# Altium footprint library Seeed-OPL-Display.PCBLIB: 11 footprints
Each footprint in its own frame and in the unit in brackets; x right, y up, seen from the top. Pads: shape width x height; smd on the part's side, far side on the other; paste and mask are expansions set on the pad; w line width, h text height; cw(c..) or ccw(c..) is an arc to the next point about the centre after c.
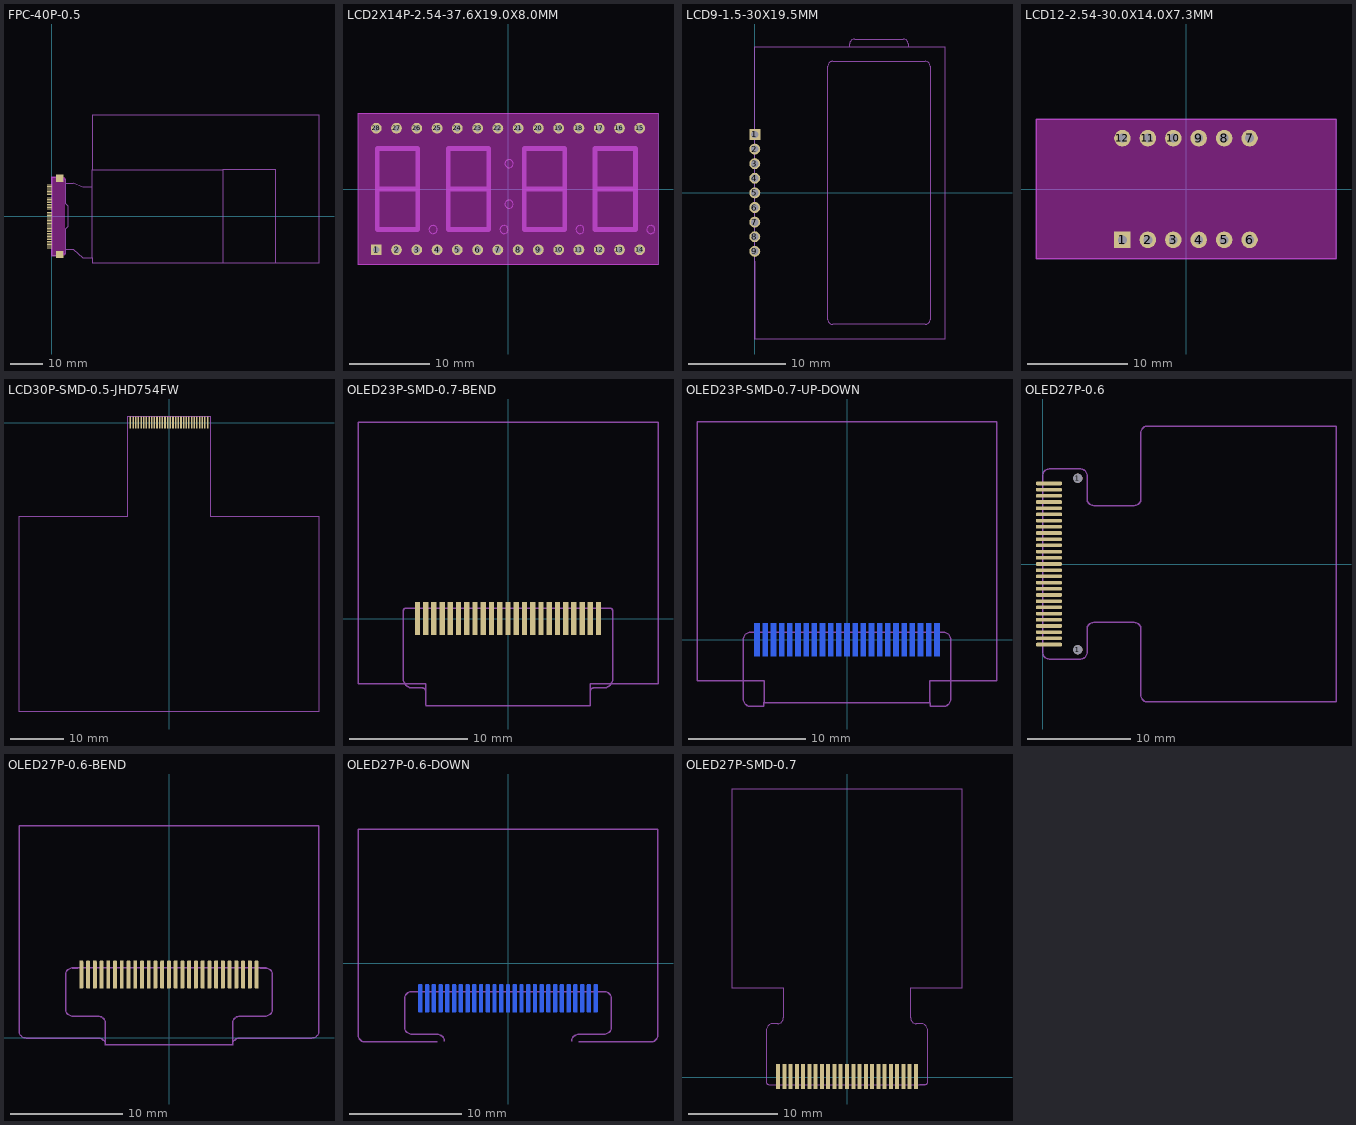
[diagram p0: the footprints below, top view; thin cyan lines are the x and y axes]

## FPC-40P-0.5 [mil]
pads (42):
  rect 60x12 smd: 1(-30,383.86) 2(-30,364.17) 3(-30,344.49) 4(-30,324.8) 5(-30,305.12) 6(-30,285.43) 7(-30,265.75) 8(-30,246.06) 9(-30,226.38) 10(-30,206.69) 11(-30,187.01) 12(-30,167.32) 13(-30,147.64) 14(-30,127.95) 15(-30,108.27) 16(-30,88.58) 17(-30,68.9) 18(-30,49.21) 19(-30,29.53) 20(-30,9.84) 21(-30,-9.84) 22(-30,-29.53) 23(-30,-49.21) 24(-30,-68.9) 25(-30,-88.58) 26(-30,-108.27) 27(-30,-127.95) 28(-30,-147.64) 29(-30,-167.32) 30(-30,-187.01) 31(-30,-206.69) 32(-30,-226.38) 33(-30,-246.06) 34(-30,-265.75) 35(-30,-285.43) 36(-30,-305.12) 37(-30,-324.8) 38(-30,-344.49) 39(-30,-364.17) 40(-30,-383.86)
  rect 90x90 smd: P1(95,465) P2(95,-465)
Keep-Out Layer:
  region: -4.41,480.32 -4.42,-480.32 160.94,-480.32 160.95,480.32
Mechanical 2:
  lines w5: -3.94,-393.7 -3.94,-480.32 47.24,-480.32 ; -3.94,393.7 -3.94,480.32 43.31,480.32 ; 145.67,-462.6 161.42,-462.6 ; 145.67,462.6 161.42,462.6 ; 160.94,-462.6 160.94,-403.54 ; 160.94,462.6 160.94,403.54 ; 495.59,360 495.59,566.93 ; 160.94,-403.54 160.94,-157.48 196.38,-127.95 196.38,127.95 160.94,157.48 160.94,403.54 ; 160.94,-403.54 259.37,-403.54 377.48,-507.87 495.59,-507.87 ; 160.94,403.54 259.37,403.54 377.48,358.27 495.59,358.27 495.59,-507.87 ; 495.59,-507.87 495.59,-566.93 2086.54,-566.93 ; 495.59,566.93 2086.54,566.93 ; 495.59,566.93 495.59,1236.22 3264.09,1236.22 3264.09,-566.93 2735.75,-566.93 ; 2086.54,-566.93 2086.54,566.93 ; 2086.54,-566.93 2735.75,-566.93 ; 2086.54,566.93 2735.75,566.93 2735.75,-566.93
Mechanical 18:
  lines w5: 160.94,-462.6 137.32,-462.6 137.32,-433.07 125.51,-433.07 125.51,-480.32 -4.41,-480.32 -4.41,480.32 125.51,480.32 125.51,433.07 137.32,433.07 137.32,462.6 160.94,462.6

## LCD2X14P-2.54-37.6X19.0X8.0MM [mm]
pads (28):
  rect 1.35x1.35 hole 0.8: 1(-16.51,-7.62)
  round 1.35 hole 0.8: 2(-13.97,-7.62) 3(-11.43,-7.62) 4(-8.89,-7.62) 5(-6.35,-7.62) 6(-3.81,-7.62) 7(-1.27,-7.62) 8(1.27,-7.62) 9(3.81,-7.62) 10(6.35,-7.62) 11(8.89,-7.62) 12(11.43,-7.62) 13(13.97,-7.62) 14(16.51,-7.62) 15(16.51,7.62) 16(13.97,7.62) 17(11.43,7.62) 18(8.89,7.62) 19(6.35,7.62) 20(3.81,7.62) 21(1.27,7.62) 22(-1.27,7.62) 23(-3.81,7.62) 24(-6.35,7.62) 25(-8.89,7.62) 26(-11.43,7.62) 27(-13.97,7.62) 28(-16.51,7.62)
Keep-Out Layer:
  rectangle: -18.8,-9.5 18.8,9.5
Mechanical 2:
  circle w0: c-9.398,-5.08 r0.508
  circle w0: c-0.508,-5.08 r0.508
  circle w0: c0.127,-1.905 r0.508
  circle w0: c0.127,3.175 r0.508
  circle w0: c9.017,-5.08 r0.508
  circle w0: c17.907,-5.08 r0.508
  lines w0.127: -18.8,-9.5 18.8,-9.5 18.8,9.5 -18.8,9.5 -18.8,-9.5
  lines w0.61: -16.383,0 -11.303,0 ; -16.383,0 -16.383,5.08 -11.303,5.08 -11.303,0 ; -16.383,0 -16.383,-5.08 -11.303,-5.08 -11.303,0 ; -7.493,0 -2.413,0 ; -7.493,0 -7.493,5.08 -2.413,5.08 -2.413,0 ; -7.493,0 -7.493,-5.08 -2.413,-5.08 -2.413,0 ; 2.032,0 7.112,0 ; 2.032,0 2.032,5.08 7.112,5.08 7.112,0 ; 2.032,0 2.032,-5.08 7.112,-5.08 7.112,0 ; 10.922,0 16.002,0 ; 10.922,0 10.922,5.08 16.002,5.08 16.002,0 ; 10.922,0 10.922,-5.08 16.002,-5.08 16.002,0

## LCD9-1.5-30X19.5MM [mm]
pads (9):
  rect 1.125x1.125 hole 0.75: 1(0,6)
  round 1.125 hole 0.75: 2(0,4.5) 3(0,3) 4(0,1.5) 5(0,0) 6(0,-1.5) 7(0,-3) 8(0,-4.5) 9(0,-6)
Mechanical 2:
  lines w0.127: 0,-7 0,-15 19.5,-15 19.5,15 15.75,15 ; 0,6.8 0,15 9.75,15 ; 9.75,15 15.75,15 ; 9.75,15 9.75,15.3 cw(c10.25,15.3) 10.25,15.8 15.25,15.8 cw(c15.25,15.3) 15.75,15.3 15.75,15 ; 7.5,-13 ccw(c8,-13) 8,-13.5 17.5,-13.5 ccw(c17.5,-13) 18,-13 18,13 ccw(c17.5,13) 17.5,13.5 8,13.5 ccw(c8,13) 7.5,13 7.5,-13
Mechanical 18:
  lines w0.127: 0,-15 0,15

## LCD12-2.54-30.0X14.0X7.3MM [mil]
pads (12):
  rect 65x65 hole 35: 1(-250,-200)
  round 65 hole 35: 2(-150,-200) 3(-50,-200) 4(50,-200) 5(150,-200) 6(250,-200) 7(250,200) 8(150,200) 9(50,200) 10(-50,200) 11(-150,200) 12(-250,200)
Keep-Out Layer:
  rectangle: -590,-275 590,275
Mechanical 2:
  lines w5: -590,-275 590,-275 590,275 -590,275 -590,-275

## LCD30P-SMD-0.5-JHD754FW [mil]
pads (30):
  rect 11.81x86.61 smd: 1(285.43,0) 2(265.75,0) 3(246.06,0) 4(226.38,0) 5(206.69,0) 6(187.01,0) 7(167.32,0) 8(147.64,0) 9(127.95,0) 10(108.27,0) 11(88.58,0) 12(68.9,0) 13(49.21,0) 14(29.53,0) 15(9.84,0) 16(-9.84,0) 17(-29.53,0) 18(-49.21,0) 19(-68.9,0) 20(-88.58,0) 21(-108.27,0) 22(-127.95,0) 23(-147.64,0) 24(-167.32,0) 25(-187.01,0) 26(-206.69,0) 27(-226.38,0) 28(-246.06,0) 29(-265.75,0) 30(-285.43,0)
Mechanical 2:
  lines w5: -1110.24,-2141.73 1110.24,-2141.73 1110.24,-692.91 305.12,-692.91 305.12,47.24 -305.12,47.24 -305.12,-692.91 -1110.24,-692.91 -1110.24,-2141.73

## OLED23P-SMD-0.7-BEND [mm]
pads (23):
  rect 0.45x2.8 smd: 1(-7.7,0) 2(-7,0) 3(-6.3,0) 4(-5.6,0) 5(-4.9,0) 6(-4.2,0) 7(-3.5,0) 8(-2.8,0) 9(-2.1,0) 10(-1.4,0) 11(-0.7,0) 12(0,0) 13(0.7,0) 14(1.4,0) 15(2.1,0) 16(2.8,0) 17(3.5,0) 18(4.2,0) 19(4.9,0) 20(5.6,0) 21(6.3,0) 22(7,0) 23(7.7,0)
Mechanical 2:
  lines w0.127: -8.646,0.9 ccw(c-8.646,0.646) -8.9,0.646 -8.9,-5.119 ccw(c-8.119,-5.119) -8.119,-5.9 -7.632,-5.9 ; -8.6,0.9 -8.1,0.9 ; -7.6,-5.9 -7.254,-5.9 cw(c-7.254,-6.154) -7,-6.154 ; -7,-7.4 7,-7.4 7,-6.154 ; -7,-7.368 -7,-6.154 ; 7.6,-5.9 7.254,-5.9 ccw(c7.254,-6.154) 7,-6.154 ; 7.632,-5.9 8.119,-5.9 ccw(c8.119,-5.119) 8.9,-5.119 8.9,0.646 ccw(c8.646,0.646) 8.646,0.9 ; 8.1,0.9 8.7,0.9 ; -7,-6.154 -7,-5.52 -12.75,-5.52 -12.75,16.68 12.75,16.68 12.75,-5.52 7,-5.52 7,-6.154
Mechanical 18:
  lines w0.127: -8.646,0.9 8.646,0.9

## OLED23P-SMD-0.7-UP-DOWN [mm]
pads (23):
  rect 0.45x2.8 smd far side: 1(-7.7,0) 2(-7,0) 3(-6.3,0) 4(-5.6,0) 5(-4.9,0) 6(-4.2,0) 7(-3.5,0) 8(-2.8,0) 9(-2.1,0) 10(-1.4,0) 11(-0.7,0) 12(0,0) 13(0.7,0) 14(1.4,0) 15(2.1,0) 16(2.8,0) 17(3.5,0) 18(4.2,0) 19(4.9,0) 20(5.6,0) 21(6.3,0) 22(7,0) 23(7.7,0)
Mechanical 2:
  lines w0.127: -7.1,-5.4 7.1,-5.4 7.1,-3.52 12.85,-3.52 12.85,18.68 -12.85,18.68 -12.85,-3.52 -7.1,-3.52 -7.1,-5.368
Mechanical 3:
  lines w0.127: -7.112,-5.368 -7.112,-5.715 -8.255,-5.715 cw(c-8.255,-5.08) -8.89,-5.08 -8.89,0 cw(c-8.255,0) -8.255,0.635 8.255,0.635 cw(c8.255,0) 8.89,0 8.89,-5.08 cw(c8.255,-5.08) 8.255,-5.715 7.112,-5.715 7.112,-5.4

## OLED27P-0.6 [mm]
pads (29):
  rrect50% 2.5x0.35 smd: 1(0.6,7.8) 2(0.6,7.2) 3(0.6,6.6) 4(0.6,6) 5(0.6,5.4) 6(0.6,4.8) 7(0.6,4.2) 8(0.6,3.6) 9(0.6,3) 10(0.6,2.4) 11(0.6,1.8) 12(0.6,1.2) 13(0.6,0.6) 14(0.6,0) 15(0.6,-0.6) 16(0.6,-1.2) 17(0.6,-1.8) 18(0.6,-2.4) 19(0.6,-3) 20(0.6,-3.6) 21(0.6,-4.2) 22(0.6,-4.8) 23(0.6,-5.4) 24(0.6,-6) 25(0.6,-6.6) 26(0.6,-7.2) 27(0.6,-7.8)
  round 0.889 hole 0.889: 1(3.4,-8.3) 1(3.4,8.3)
Mechanical 2:
  lines w0.127: 0,-8.6 0,-8.2 ; 0,-8.565 ccw(c0.635,-8.565) 0.635,-9.2 3.665,-9.2 ccw(c3.665,-8.565) 4.3,-8.565 4.3,-6.295 cw(c4.935,-6.295) 4.935,-5.66 8.865,-5.66 cw(c8.865,-6.295) 9.5,-6.295 9.5,-12.715 ccw(c10.135,-12.715) 10.135,-13.35 28.4,-13.35 28.4,13.35 10.135,13.35 ccw(c10.135,12.715) 9.5,12.715 9.5,6.295 cw(c8.865,6.295) 8.865,5.66 4.935,5.66 cw(c4.935,6.295) 4.3,6.295 4.3,8.565 ccw(c3.665,8.565) 3.665,9.2 0.635,9.2 ccw(c0.635,8.565) 0,8.565 ; 0,8.1 0,8.6
Mechanical 18:
  lines w0.127: 0,-8.565 0,8.565

## OLED27P-0.6-BEND [mm]
pads (27):
  rrect50% 0.35x2.5 smd: 1(-7.805,5.624) 2(-7.205,5.624) 3(-6.605,5.624) 4(-6.005,5.624) 5(-5.405,5.624) 6(-4.805,5.624) 7(-4.205,5.624) 8(-3.605,5.624) 9(-3.005,5.624) 10(-2.405,5.624) 11(-1.805,5.624) 12(-1.205,5.624) 13(-0.605,5.624) 14(-0.005,5.624) 15(0.595,5.624) 16(1.195,5.624) 17(1.795,5.624) 18(2.395,5.624) 19(2.995,5.624) 20(3.595,5.624) 21(4.195,5.624) 22(4.795,5.624) 23(5.395,5.624) 24(5.995,5.624) 25(6.595,5.624) 26(7.195,5.624) 27(7.795,5.624)
Mechanical 2:
  lines w0.127: -8.6,6.2 -8.1,6.2 ; -8.565,6.223 ccw(c-8.565,5.588) -9.2,5.588 -9.2,2.558 ccw(c-8.565,2.558) -8.565,1.923 -6.295,1.923 cw(c-6.295,1.288) -5.66,1.288 ; -5.664,1.245 -5.664,-0.635 5.664,-0.635 5.664,1.245 ; -5.66,-0.66 ccw(c-6.295,-0.66) -6.295,-0.025 -12.715,-0.025 cw(c-12.715,0.61) -13.35,0.61 -13.35,18.875 13.35,18.875 13.35,0.61 cw(c12.715,0.61) 12.715,-0.025 6.295,-0.025 ccw(c6.295,-0.66) 5.66,-0.66 ; 5.66,1.288 cw(c6.295,1.288) 6.295,1.923 8.565,1.923 ccw(c8.565,2.558) 9.2,2.558 9.2,5.588 ccw(c8.565,5.588) 8.565,6.223 ; 8.1,6.2 8.7,6.2
Mechanical 18:
  lines w0.127: -8.565,6.223 8.565,6.223

## OLED27P-0.6-DOWN [mm]
pads (27):
  rrect50% 0.35x2.5 smd far side: 1(-7.8,-3.14) 2(-7.2,-3.14) 3(-6.6,-3.14) 4(-6,-3.14) 5(-5.4,-3.14) 6(-4.8,-3.14) 7(-4.2,-3.14) 8(-3.6,-3.14) 9(-3,-3.14) 10(-2.4,-3.14) 11(-1.8,-3.14) 12(-1.2,-3.14) 13(-0.6,-3.14) 14(0,-3.14) 15(0.6,-3.14) 16(1.2,-3.14) 17(1.8,-3.14) 18(2.4,-3.14) 19(3,-3.14) 20(3.6,-3.14) 21(4.2,-3.14) 22(4.8,-3.14) 23(5.4,-3.14) 24(6,-3.14) 25(6.6,-3.14) 26(7.2,-3.14) 27(7.8,-3.14)
Mechanical 2:
  lines w0.127: -6.295,-7.01 -12.715,-7.01 cw(c-12.715,-6.375) -13.35,-6.375 -13.35,11.89 13.35,11.89 13.35,-6.375 cw(c12.715,-6.375) 12.715,-7.01 6.295,-7.01
Mechanical 3:
  lines w0.127: -5.66,-6.967 ccw(c-6.295,-6.967) -6.295,-6.332 -8.565,-6.332 cw(c-8.565,-5.697) -9.2,-5.697 -9.2,-3.175 cw(c-8.565,-3.175) -8.565,-2.54 8.565,-2.54 cw(c8.565,-3.175) 9.2,-3.175 9.2,-5.697 cw(c8.565,-5.697) 8.565,-6.332 6.295,-6.332 ccw(c6.295,-6.967) 5.66,-6.967

## OLED27P-SMD-0.7 [mm]
pads (23):
  rect 0.45x2.8 smd: 1(-7.7,0.1) 2(-7,0.1) 3(-6.3,0.1) 4(-5.6,0.1) 5(-4.9,0.1) 6(-4.2,0.1) 7(-3.5,0.1) 8(-2.8,0.1) 9(-2.1,0.1) 10(-1.4,0.1) 11(-0.7,0.1) 12(0,0.1) 13(0.7,0.1) 14(1.4,0.1) 15(2.1,0.1) 16(2.8,0.1) 17(3.5,0.1) 18(4.2,0.1) 19(4.9,0.1) 20(5.6,0.1) 21(6.3,0.1) 22(7,0.1) 23(7.7,0.1)
Mechanical 2:
  lines w0.127: -8.746,-0.8 cw(c-8.746,-0.546) -9,-0.546 -9,5.219 cw(c-8.219,5.219) -8.219,6 -7.733,6 ccw(c-7.733,6.632) -7.1,6.632 -7.1,9.98 -12.85,9.98 -12.85,32.18 12.85,32.18 12.85,9.98 7.1,9.98 7.1,6.632 ccw(c7.733,6.632) 7.733,6 8.219,6 cw(c8.219,5.219) 9,5.219 9,-0.546 cw(c8.746,-0.546) 8.746,-0.8 ; -8.7,-0.8 -8.1,-0.8 ; 8.1,-0.8 8.7,-0.8
Mechanical 18:
  lines w0.127: -8.746,-0.8 8.746,-0.8